# Altium schematic symbol library FILTER.SchLib: 3 symbols
Pins are listed as number, name and electrical type; pins without a type are passive.

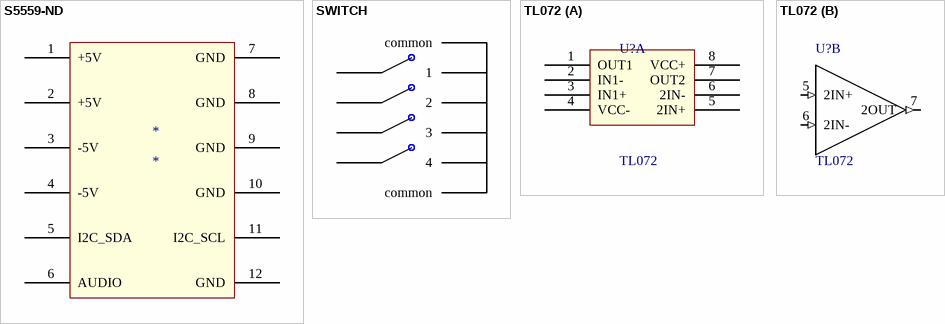
[diagram p0: symbols S5559-ND to TL072]

## S5559-ND
designator *
pins: 1 +5V, 2 +5V, 3 -5V, 4 -5V, 5 I2C_SDA, 6 AUDIO, 7 GND, 8 GND, 9 GND, 10 GND, 11 I2C_SCL, 12 GND

## SWITCH
designator ?  (value not drawn)
footprint bs1470 (Footprint not found)
footprint SLB1470 (Footprint not found)
footprint slb1470 (Footprint not found)
pins: 12 2, 13 3, 14 4, 15 common, 16, 17, 18, 19, ?1 common, ?2 1

## TL072
designator U?
Wide Bandwidth Dual JFET Input Operational Amplifier 8-PDIP 0 to 70; MF: Texas Instruments; Price: None; MP: TL072; SnapEDA_Link: https://www.snapeda.com/parts/TL072/Texas%2520Instruments/view-part/?ref=snap; Package: None; Availability: Unavailable; Value: *
footprint DIP794W45P254L1060H508Q8
signal-integrity model TL072 (Model Description)
part A pins: 1 OUT1, 2 IN1-, 3 IN1+, 4 VCC-, 5 2IN+, 6 2IN-, 7 OUT2, 8 VCC+
part B pins: 5 2IN+ (in), 6 2IN- (in), 7 2OUT (out)